# Altium footprint library CM-1153PC PCB.PcbLib: 1 footprints
Each footprint in its own frame and in the unit in brackets; x right, y up, seen from the top. Pads: shape width x height; smd on the part's side, far side on the other; paste and mask are expansions set on the pad; w line width, h text height; cw(c..) or ccw(c..) is an arc to the next point about the centre after c.
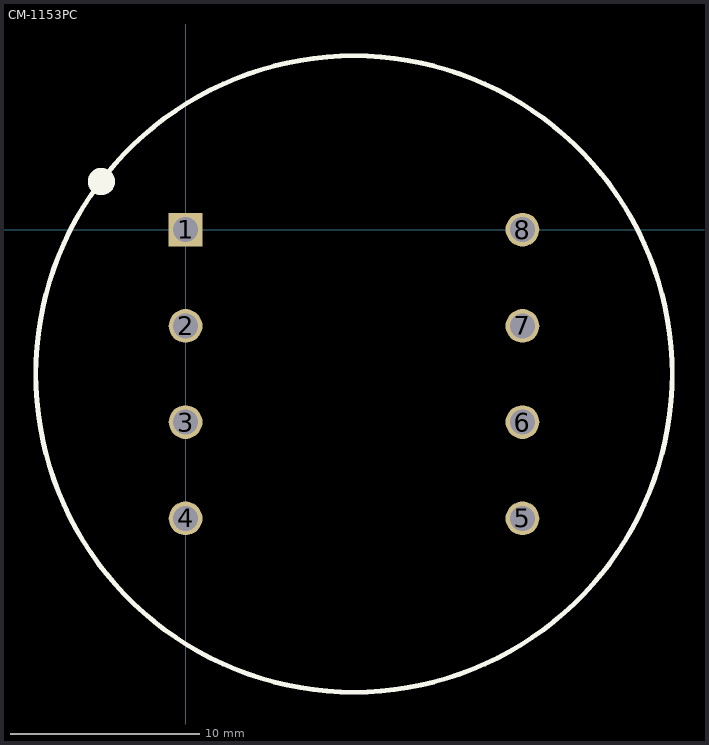
[diagram p0: the footprint, top view; thin cyan lines are the x and y axes]

## CM-1153PC [mil] "Cinemag CM-1153PC Transformer"
pads (8):
  rect 70x70 hole 52: 1(0,0)
  round 70 hole 52: 2(0,-200) 3(0,-400) 4(0,-600) 5(700,-600) 6(700,-400) 7(700,-200) 8(700,0)
Top Overlay:
  circle w25: c-175,100 r15.81
  circle w10: c350,-300 r661.21